# EAGLE library part HFBR-2515B (library den)
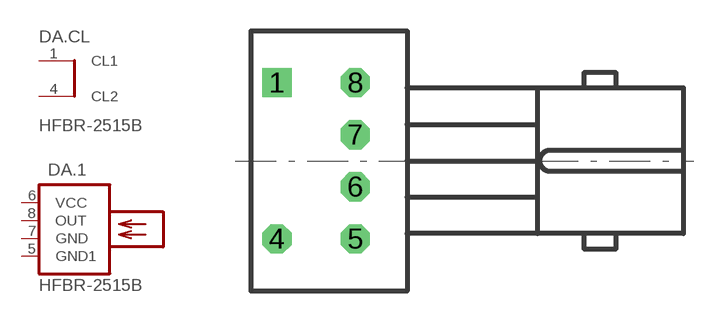
[diagram p35: symbol with the pads of HFBR-X5; footprint HFBR-X5]

Designator prefix DA; gates .1=R-2515B .CL=CLAMP2

## HFBR-2515B  [HFBR-X5]
1  .CL:CL1
4  .CL:CL2
5  .1:GND1
6  .1:VCC
7  .1:GND
8  .1:OUT

## Footprint HFBR-X5 (pad centres in mm)
drill 0.8 pad 1.422 square: 1 -2.032,3.81
drill 0.8 pad 1.422 octagon: 4 -2.032,-3.81; 5 1.778,-3.81; 6 1.778,-1.27; 7 1.778,1.27; 8 1.778,3.81